# EAGLE library part TM4C129 (library EE445L)
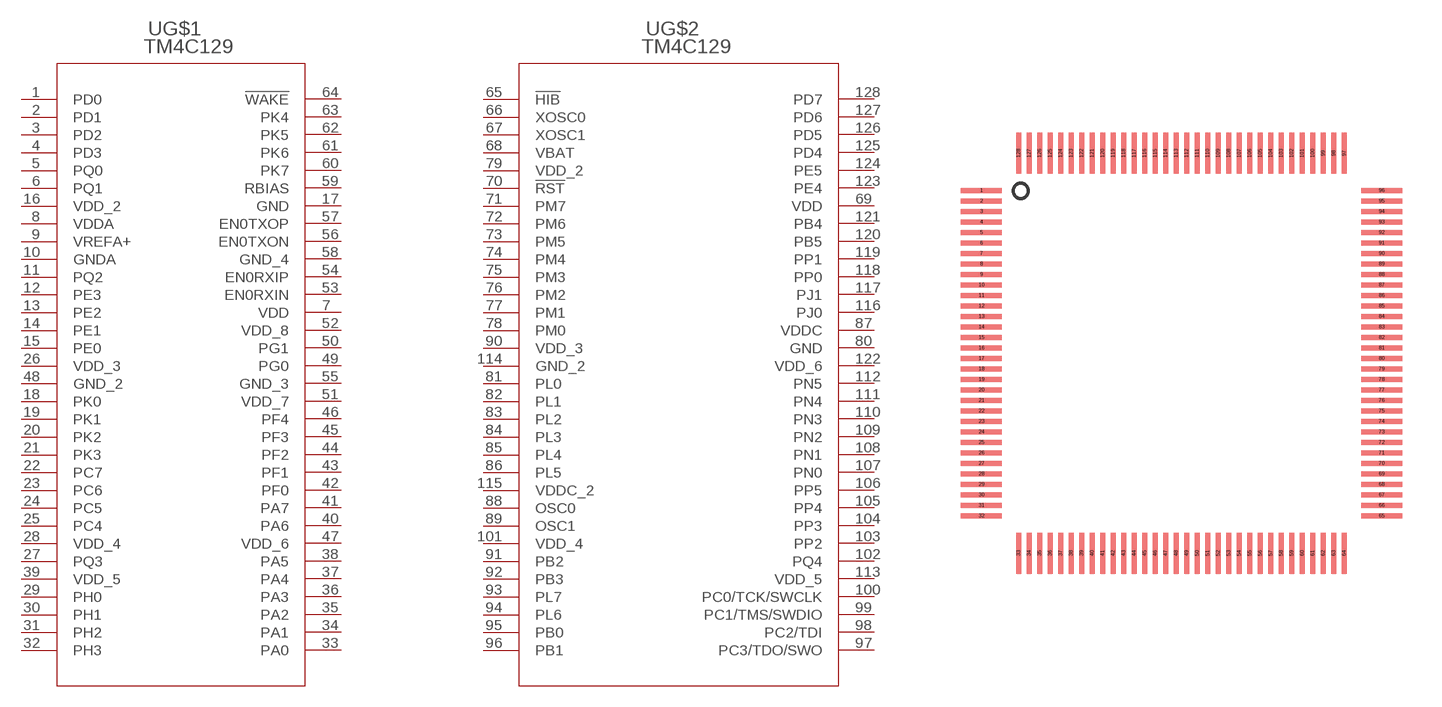
[diagram p42: symbol with the pads of TQFP-128; footprint TQFP-128]

Designator prefix U; gates G$1=TM4C129-A G$2=TM4C129-B

## TM4C129  [TQFP-128]
1  G$1:PD0
2  G$1:PD1
3  G$1:PD2
4  G$1:PD3
5  G$1:PQ0
6  G$1:PQ1
7  G$1:VDD  pwr
8  G$1:VDDA  pwr
9  G$1:VREFA+  pwr
10  G$1:GNDA  pwr
11  G$1:PQ2
12  G$1:PE3
13  G$1:PE2
14  G$1:PE1
15  G$1:PE0
16  G$1:VDD_2  pwr
17  G$1:GND  pwr
18  G$1:PK0
19  G$1:PK1
20  G$1:PK2
21  G$1:PK3
22  G$1:PC7
23  G$1:PC6
24  G$1:PC5
25  G$1:PC4
26  G$1:VDD_3  pwr
27  G$1:PQ3
28  G$1:VDD_4  pwr
29  G$1:PH0
30  G$1:PH1
31  G$1:PH2
32  G$1:PH3
33  G$1:PA0
34  G$1:PA1
35  G$1:PA2
36  G$1:PA3
37  G$1:PA4
38  G$1:PA5
39  G$1:VDD_5  pwr
40  G$1:PA6
41  G$1:PA7
42  G$1:PF0
43  G$1:PF1
44  G$1:PF2
45  G$1:PF3
46  G$1:PF4
47  G$1:VDD_6  pwr
48  G$1:GND_2  pwr
49  G$1:PG0
50  G$1:PG1
51  G$1:VDD_7  pwr
52  G$1:VDD_8  pwr
53  G$1:EN0RXIN
54  G$1:EN0RXIP
55  G$1:GND_3  pwr
56  G$1:EN0TXON
57  G$1:EN0TXOP
58  G$1:GND_4  pwr
59  G$1:RBIAS  out
60  G$1:PK7
61  G$1:PK6
62  G$1:PK5
63  G$1:PK4
64  G$1:!WAKE  in
65  G$2:!HIB  out
66  G$2:XOSC0  in
67  G$2:XOSC1  out
68  G$2:VBAT  pwr
69  G$2:VDD  pwr
70  G$2:!RST  in
71  G$2:PM7
72  G$2:PM6
73  G$2:PM5
74  G$2:PM4
75  G$2:PM3
76  G$2:PM2
77  G$2:PM1
78  G$2:PM0
79  G$2:VDD_2  pwr
80  G$2:GND  pwr
81  G$2:PL0
82  G$2:PL1
83  G$2:PL2
84  G$2:PL3
85  G$2:PL4
86  G$2:PL5
87  G$2:VDDC  pwr
88  G$2:OSC0  in
89  G$2:OSC1  out
90  G$2:VDD_3  pwr
91  G$2:PB2
92  G$2:PB3
93  G$2:PL7
94  G$2:PL6
95  G$2:PB0
96  G$2:PB1
97  G$2:PC3/TDO/SWO
98  G$2:PC2/TDI
99  G$2:PC1/TMS/SWDIO
100  G$2:PC0/TCK/SWCLK
101  G$2:VDD_4  pwr
102  G$2:PQ4
103  G$2:PP2
104  G$2:PP3
105  G$2:PP4
106  G$2:PP5
107  G$2:PN0
108  G$2:PN1
109  G$2:PN2
110  G$2:PN3
111  G$2:PN4
112  G$2:PN5
113  G$2:VDD_5  pwr
114  G$2:GND_2  pwr
115  G$2:VDDC_2  pwr
116  G$2:PJ0
117  G$2:PJ1
118  G$2:PP0
119  G$2:PP1
120  G$2:PB5
121  G$2:PB4
122  G$2:VDD_6  pwr
123  G$2:PE4
124  G$2:PE5
125  G$2:PD4
126  G$2:PD5
127  G$2:PD6
128  G$2:PD7

## Footprint TQFP-128 (pad centres in mm)
smd 1.564 x 0.189: 1 -7.62,6.2; 2 -7.62,5.8; 3 -7.62,5.4; 4 -7.62,5; 5 -7.62,4.6; 6 -7.62,4.2; 7 -7.62,3.8; 8 -7.62,3.4; 9 -7.62,3; 10 -7.62,2.6; 11 -7.62,2.2; 12 -7.62,1.8; 13 -7.62,1.4; 14 -7.62,1; 15 -7.62,0.6; 16 -7.62,0.2; 17 -7.62,-0.2; 18 -7.62,-0.6; 19 -7.62,-1; 20 -7.62,-1.4; 21 -7.62,-1.8; 22 -7.62,-2.2; 23 -7.62,-2.6; 24 -7.62,-3; 25 -7.62,-3.4; 26 -7.62,-3.8; 27 -7.62,-4.2; 28 -7.62,-4.6; 29 -7.62,-5; 30 -7.62,-5.4; 31 -7.62,-5.8; 32 -7.62,-6.2; 65 7.62,-6.2; 66 7.62,-5.8; 67 7.62,-5.4; 68 7.62,-5; 69 7.62,-4.6; 70 7.62,-4.2; 71 7.62,-3.8; 72 7.62,-3.4; 73 7.62,-3; 74 7.62,-2.6; 75 7.62,-2.2; 76 7.62,-1.8; 77 7.62,-1.4; 78 7.62,-1; 79 7.62,-0.6; 80 7.62,-0.2; 81 7.62,0.2; 82 7.62,0.6; 83 7.62,1; 84 7.62,1.4; 85 7.62,1.8; 86 7.62,2.2; 87 7.62,2.6; 88 7.62,3; 89 7.62,3.4; 90 7.62,3.8; 91 7.62,4.2; 92 7.62,4.6; 93 7.62,5; 94 7.62,5.4; 95 7.62,5.8; 96 7.62,6.2
smd 0.189 x 1.564: 33 -6.2,-7.62; 34 -5.8,-7.62; 35 -5.4,-7.62; 36 -5,-7.62; 37 -4.6,-7.62; 38 -4.2,-7.62; 39 -3.8,-7.62; 40 -3.4,-7.62; 41 -3,-7.62; 42 -2.6,-7.62; 43 -2.2,-7.62; 44 -1.8,-7.62; 45 -1.4,-7.62; 46 -1,-7.62; 47 -0.6,-7.62; 48 -0.2,-7.62; 49 0.2,-7.62; 50 0.6,-7.62; 51 1,-7.62; 52 1.4,-7.62; 53 1.8,-7.62; 54 2.2,-7.62; 55 2.6,-7.62; 56 3,-7.62; 57 3.4,-7.62; 58 3.8,-7.62; 59 4.2,-7.62; 60 4.6,-7.62; 61 5,-7.62; 62 5.4,-7.62; 63 5.8,-7.62; 64 6.2,-7.62; 97 6.2,7.62; 98 5.8,7.62; 99 5.4,7.62; 100 5,7.62; 101 4.6,7.62; 102 4.2,7.62; 103 3.8,7.62; 104 3.4,7.62; 105 3,7.62; 106 2.6,7.62; 107 2.2,7.62; 108 1.8,7.62; 109 1.4,7.62; 110 1,7.62; 111 0.6,7.62; 112 0.2,7.62; 113 -0.2,7.62; 114 -0.6,7.62; 115 -1,7.62; 116 -1.4,7.62; 117 -1.8,7.62; 118 -2.2,7.62; 119 -2.6,7.62; 120 -3,7.62; 121 -3.4,7.62; 122 -3.8,7.62; 123 -4.2,7.62; 124 -4.6,7.62; 125 -5,7.62; 126 -5.4,7.62; 127 -5.8,7.62; 128 -6.2,7.62